# EAGLE library part AD5361DAC (library ardustat)
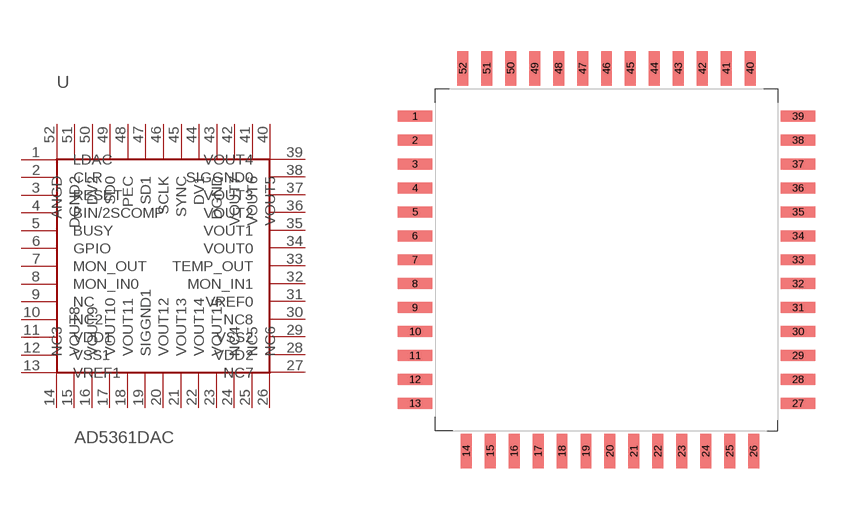
[diagram p5: symbol with the pads of 52LQFP; footprint 52LQFP]

Designator prefix -

## AD5361DAC  [52LQFP]
1  LDAC
2  CLR
3  RESET
4  BIN/2SCOMP
5  BUSY
6  GPIO
7  MON_OUT
8  MON_IN0
9  NC
10  NC2
11  VDD1
12  VSS1
13  VREF1
14  NC3
15  VOUT8
16  VOUT9
17  VOUT10
18  VOUT11
19  SIGGND1
20  VOUT12
21  VOUT13
22  VOUT14
23  VOUT15
24  NC4
25  NC5
26  NC6
27  NC7
28  VDD2
29  VSS2
30  NC8
31  VREF0
32  MON_IN1
33  TEMP_OUT
34  VOUT0
35  VOUT1
36  VOUT2
37  VOUT3
38  SIGGND0
39  VOUT4
40  VOUT5
41  VOUT6
42  VOUT7
43  DGND
44  DV1
45  SYNC
46  SCLK
47  SD1
48  PEC
49  SD0
50  DV2
51  DGND2
52  ANGD

## Footprint 52LQFP (pad centres in mm)
smd 1 x 0.32: 1 -5.6,4.2; 2 -5.6,3.5; 3 -5.6,2.8; 4 -5.6,2.1; 5 -5.6,1.4; 6 -5.6,0.7; 7 -5.6,0; 8 -5.6,-0.7; 9 -5.6,-1.4; 10 -5.6,-2.1; 11 -5.6,-2.8; 12 -5.6,-3.5; 13 -5.6,-4.2; 27 5.6,-4.2; 28 5.6,-3.5; 29 5.6,-2.8; 30 5.6,-2.1; 31 5.6,-1.4; 32 5.6,-0.7; 33 5.6,0; 34 5.6,0.7; 35 5.6,1.4; 36 5.6,2.1; 37 5.6,2.8; 38 5.6,3.5; 39 5.6,4.2
smd 0.32 x 1: 14 -4.1,-5.6; 15 -3.4,-5.6; 16 -2.7,-5.6; 17 -2,-5.6; 18 -1.3,-5.6; 19 -0.6,-5.6; 20 0.1,-5.6; 21 0.8,-5.6; 22 1.5,-5.6; 23 2.2,-5.6; 24 2.9,-5.6; 25 3.6,-5.6; 26 4.3,-5.6; 40 4.2,5.6; 41 3.5,5.6; 42 2.8,5.6; 43 2.1,5.6; 44 1.4,5.6; 45 0.7,5.6; 46 0,5.6; 47 -0.7,5.6; 48 -1.4,5.6; 49 -2.1,5.6; 50 -2.8,5.6; 51 -3.5,5.6; 52 -4.2,5.6